# EAGLE library part TPS7A4001 (library SparkFun-AnalogIC)
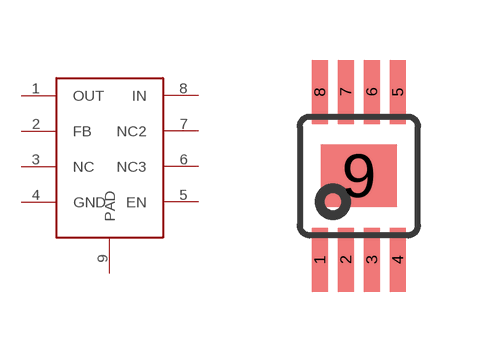
[diagram p50: symbol with the pads of POWER-SOP8; footprint POWER-SOP8]

Designator prefix -

## TPS7A4001  [POWER-SOP8]
1  OUT
2  FB
3  NC
4  GND
5  EN
6  NC3
7  NC2
8  IN
9  PAD

## Footprint POWER-SOP8 (pad centres in mm)
8M, 8-Lead, 0.118" Wide, Miniature Small Outline Package MSOP 8M-Package doc1097.pdf
smd 0.4 x 1.6: 1 -0.975,-2.1; 2 -0.325,-2.1; 3 0.325,-2.1; 4 0.975,-2.1; 5 0.975,2.1; 6 0.325,2.1; 7 -0.325,2.1; 8 -0.975,2.1
smd 1.89 x 1.57: 9 0,0